# Altium footprint library MOSFET.PcbLib: 4 footprints
Each footprint in its own frame and in the unit in brackets; x right, y up, seen from the top. Pads: shape width x height; smd on the part's side, far side on the other; paste and mask are expansions set on the pad; w line width, h text height; cw(c..) or ccw(c..) is an arc to the next point about the centre after c.
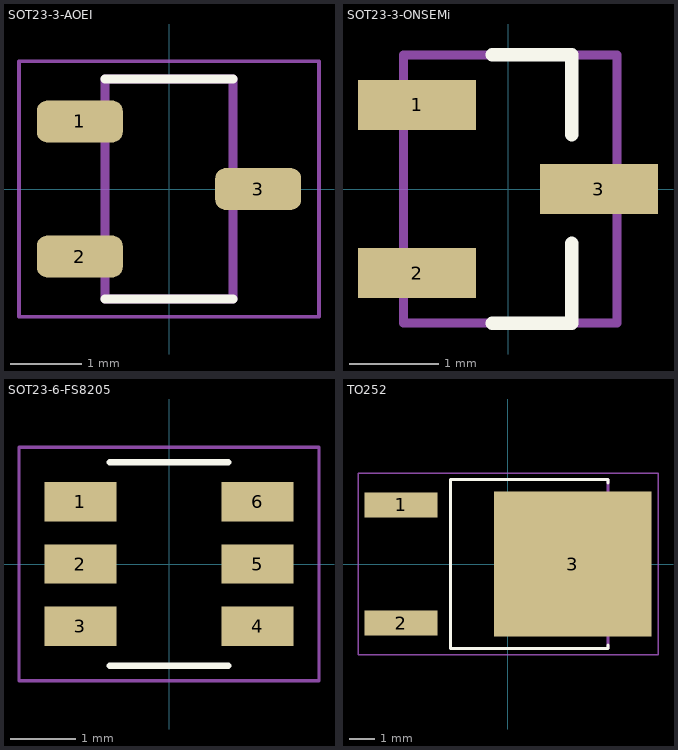
[diagram p0: the footprints below, top view; thin cyan lines are the x and y axes]

## SOT23-3-AOEI [mm]
pads (3):
  rrect50% 1.21x0.59 smd: 1(-1.255,0.95) 2(-1.255,-0.95) 3(1.255,0)
Top Overlay:
  lines w0.127: -0.9,-1.55 0.9,-1.55 ; -0.9,1.55 0.9,1.55
Mechanical 1:
  lines w0.127: -0.9,-1.55 0.9,-1.55 0.9,1.55 -0.9,1.55 -0.9,-1.55
Mechanical 13:
  lines w0.127: -0.9,-1.55 0.9,-1.55 0.9,1.55 -0.9,1.55 -0.9,-1.55
Mechanical 15:
  lines w0.05: -2.11,-1.8 2.11,-1.8 2.11,1.8 -2.11,1.8 -2.11,-1.8
Mechanical 29:
  lines w0.05: -2.11,-1.8 2.11,-1.8 2.11,1.8 -2.11,1.8 -2.11,-1.8
  text "'.Designator'" at -1.016,-0.254 h0.5
3D body "AO3400A.step": height 1.25, standoff 0, extent -1.4,-1.45 1.4,1.45

## SOT23-3-ONSEMi [mil]
pads (3):
  rect 52x22 smd: 1(-40,37) 2(-40,-37) 3(40,0)
Top Overlay:
  lines w6: -7,-59 28,-59 28,-24 ; -7,59 28,59 28,24
Mechanical 13:
  lines w3.94: -46,-59 48,-59 48,59 -46,59 -46,-59
3D body "BSS138K.step": height 43.7, standoff 0, extent -47.24,-57.09 47.24,57.09

## SOT23-6-FS8205 [mm]
pads (6):
  rect 1.1x0.6 smd paste+0 mask+0.051: 1(-1.35,0.95) 2(-1.35,0) 3(-1.35,-0.95) 4(1.35,-0.95) 5(1.35,0) 6(1.35,0.95)
Top Overlay:
  lines w0.1: -0.9,-1.55 0.9,-1.55 ; -0.9,1.55 0.9,1.55
Mechanical 15:
  lines w0.05: -2.286,-1.778 -2.286,1.778 2.286,1.778 2.286,-1.778 -2.286,-1.778
3D body "SOT23-6.step": height 1.1, standoff 0, extent -1.25,-1.5 1.25,1.5

## TO252 [mm]
pads (3):
  rect 2.83x0.97 smd: 1(-4.14,2.29) 2(-4.14,-2.29)
  rect 6.1x5.63 smd paste-4: 3(2.51,0)
Top Overlay:
  lines w0.127: 3.872,-3.135 3.872,-3.27 -2.222,-3.27 -2.222,3.27 3.872,3.27 3.872,3.135
Top Paste:
  region: 3.24,-0.655 1.78,-0.655 1.78,0.655 3.24,0.655
  region: 1.21,-0.655 -0.25,-0.655 -0.25,0.655 1.21,0.655
  region: 5.27,-0.655 3.81,-0.655 3.81,0.655 5.27,0.655
  region: 1.21,1.225 -0.25,1.225 -0.25,2.535 1.21,2.535
  region: 3.24,1.225 1.78,1.225 1.78,2.535 3.24,2.535
  region: 5.27,1.225 3.81,1.225 3.81,2.535 5.27,2.535
  region: 1.21,-2.535 -0.25,-2.535 -0.25,-1.225 1.21,-1.225
  region: 3.24,-2.535 1.78,-2.535 1.78,-1.225 3.24,-1.225
  region: 5.27,-2.535 3.81,-2.535 3.81,-1.225 5.27,-1.225
Mechanical 1:
  lines w0.127: -2.222,-3.27 3.872,-3.27 3.872,3.27 -2.222,3.27 -2.222,-3.27
Mechanical 13:
  lines w0.127: -2.222,-3.27 3.872,-3.27 3.872,3.27 -2.222,3.27 -2.222,-3.27
Mechanical 15:
  lines w0.05: -5.805,-3.52 -5.805,3.52 5.81,3.52 5.81,-3.52 -5.805,-3.52
Mechanical 29:
  lines w0.05: -5.805,-3.52 -5.805,3.52 5.81,3.52 5.81,-3.52 -5.805,-3.52
  text "'.Designator'" at 0,0 h0.7
3D body "step_temp.STEP": height 2.51, standoff 0, extent -4.953,-3.27 4.953,3.27